# EAGLE library part MAX19506 (library HaasMaxADC)
The MAX19506 dual-channel, analog-to-digital converter (ADC) provides 8-bit resolution and a maximum sample rate of 100Msps.
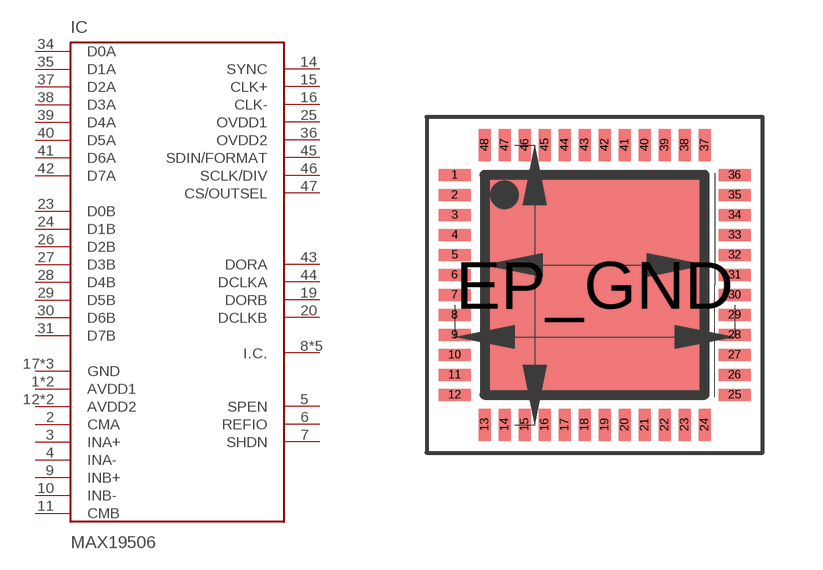
[diagram p0: symbol with the pads of TQFP-48; footprint TQFP-48]

Designator prefix IC

## MAX19506  [TQFP-48]
1  AVDD1  pwr
2  CMA
3  INA+  in
4  INA-  in
5  SPEN
6  REFIO
7  SHDN
8  I.C.  nc
9  INB+  in
10  INB-  in
11  CMB
12  AVDD2  pwr
13  AVDD2  pwr
14  SYNC
15  CLK+
16  CLK-
17  GND
18  GND
19  DORB
20  DCLKB
21  I.C.  nc
22  I.C.  nc
23  D0B  out
24  D1B  out
25  OVDD1
26  D2B  out
27  D3B  out
28  D4B  out
29  D5B  out
30  D6B  out
31  D7B  out
32  I.C.  nc
33  I.C.  nc
34  D0A  out
35  D1A  out
36  OVDD2
37  D2A  out
38  D3A  out
39  D4A  out
40  D5A  out
41  D6A  out
42  D7A  out
43  DORA
44  DCLKA
45  SDIN/FORMAT
46  SCLK/DIV
47  CS/OUTSEL
48  AVDD1  pwr
EP_GND  GND

## Footprint TQFP-48 (pad centres in mm)
48 TQFN-EP Package IPC7351
smd 0.8 x 0.3: 1 -3.5,2.75; 2 -3.5,2.25; 3 -3.5,1.75; 4 -3.5,1.25; 5 -3.5,0.75; 6 -3.5,0.25; 7 -3.5,-0.25; 8 -3.5,-0.75; 9 -3.5,-1.25; 10 -3.5,-1.75; 11 -3.5,-2.25; 12 -3.5,-2.75; 25 3.5,-2.75; 26 3.5,-2.25; 27 3.5,-1.75; 28 3.5,-1.25; 29 3.5,-0.75; 30 3.5,-0.25; 31 3.5,0.25; 32 3.5,0.75; 33 3.5,1.25; 34 3.5,1.75; 35 3.5,2.25; 36 3.5,2.75
smd 0.3 x 0.8: 13 -2.75,-3.5; 14 -2.25,-3.5; 15 -1.75,-3.5; 16 -1.25,-3.5; 17 -0.75,-3.5; 18 -0.25,-3.5; 19 0.25,-3.5; 20 0.75,-3.5; 21 1.25,-3.5; 22 1.75,-3.5; 23 2.25,-3.5; 24 2.75,-3.5; 37 2.75,3.5; 38 2.25,3.5; 39 1.75,3.5; 40 1.25,3.5; 41 0.75,3.5; 42 0.25,3.5; 43 -0.25,3.5; 44 -0.75,3.5; 45 -1.25,3.5; 46 -1.75,3.5; 47 -2.25,3.5; 48 -2.75,3.5
smd 5.588 x 5.588: EP_GND 0,0